# Altium schematic symbol library 618015231121.SchLib: 1 symbol
Pins are listed as number, name and electrical type; pins without a type are passive.

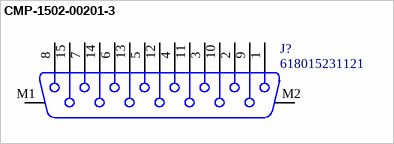
[diagram p0: symbol CMP-1502-00201-3]

## CMP-1502-00201-3
designator J?, comment 618015231121
15 Way Right Angle Through Hole Pcb D-sub Connector Socket, 2.77MM, 2.84MM Pitch; Contact Resistance: 30mΩ; Current Rating: 3A; Operating Supply Voltage: 125V; Gender: Female; Number of Contacts: 15; Insulation Resistance: 5GΩ; Mount: Through Hole; Orientation: Right Angle; Width: 12.5mm; Depth: 18.5mm; Pitch: 2.77mm; Number of Pins: 15; Insulation Material: PBT; Max Operating Temperature: 105°C; Number of Rows: 2; Length: 24.8mm; Termination: SMD/SMT; Contact Plating: Gold; Housing Material: Steel; RoHS: Compliant; Min Operating Temperature: -55°C; Voltage Rating: 125V
footprint 618015231121 (15 pins, right angled, 8.08mm, with hex screw)
pins: 1, 2, 3, 4, 5, 6, 7, 8, 9, 10, 11, 12, 13, 14, 15, M1, M2